# Altium footprint library SULLINS_NRPN042MAMS-RC.PcbLib: 1 footprints
Each footprint in its own frame and in the unit in brackets; x right, y up, seen from the top. Pads: shape width x height; smd on the part's side, far side on the other; paste and mask are expansions set on the pad; w line width, h text height; cw(c..) or ccw(c..) is an arc to the next point about the centre after c.
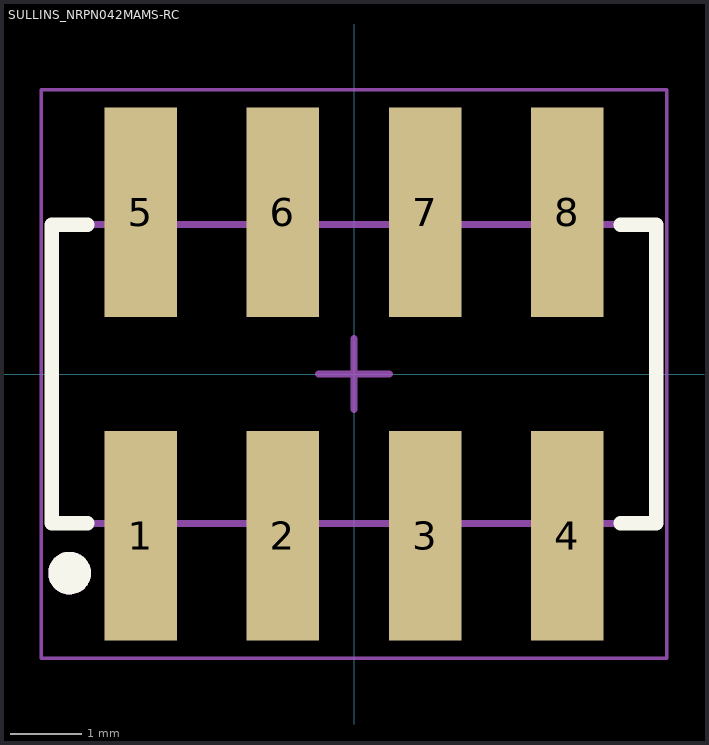
[diagram p0: the footprint, top view; thin cyan lines are the x and y axes]

## SULLINS_NRPN042MAMS-RC [mm] "SULLINS_NRPN042MAMS-RC"
height 6
pads (8):
  rect 1.02x2.95 smd: 1(-3,-2.275) 2(-1,-2.275) 3(1,-2.275) 4(3,-2.275) 5(-3,2.275) 6(-1,2.275) 7(1,2.275) 8(3,2.275)
Top Overlay:
  circle w0.3: c-4,-2.8 r0.15
  lines w0.2: -3.75,-2.1 -4.25,-2.1 -4.25,2.1 -3.75,2.1 ; 3.75,-2.1 4.25,-2.1 4.25,2.1 3.75,2.1
Mechanical 13:
  circle w0.3: c-4,-2.8 r0.15
  lines w0.1: -4.25,-2.1 4.25,-2.1 4.25,2.1 -4.25,2.1 -4.25,-2.1
Mechanical 15:
  lines w0.05: -4.4,-4 -4.4,4 4.4,4 4.4,-4 -4.4,-4
  lines w0.1: -0.5,0 0.5,0 ; 0,-0.5 0,0.5
3D body "SULLINS_NRPN042MAMS-RC.STEP": height 5.8, standoff 0, extent -4,-3.25 4,3.25